# EAGLE library part 750315038 (library Wurth_Power Magnetics_WE-IBTI)
WE-IBTI Isolated Buck Transformers Characteristics Flybuck™ topology Operating Temp: -40°C to +125°C Excellent leakage inductance and interwinding capacitance performance Applications Industrial Programmable Logic Controllers (PLCs) Building automation and process control Isolated interface power: RS-422, RS-485, CAN, I2C, LAN Motor drive control, inverters and industrial automation Isolated low power drivers & regulators, smart e-meters Bias power supplies for gate drives and op-amps <https://www.we-online.com/components/media/o790826v209%20family-MID-IBTI.1673.jpg> Details see: www.we-online.com/en/components/products/WE-IBTI <www.we-online.com/catalog/WE-IBTI/?utm_source=eagle_model&utm_medium=description_link&utm_campaign=eisos_eagle> Created by Ella Wu 2024-06-07 2024 (C) Wurth Elektronik
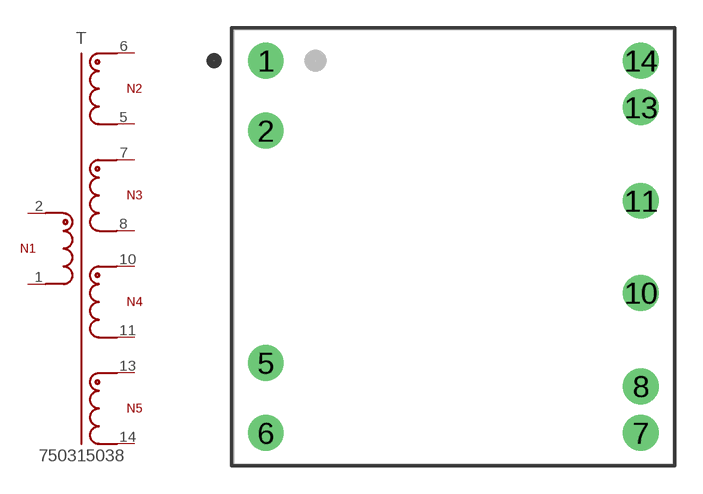
[diagram p26: symbol with the pads of WE-IBTI_PQ2020_L23.36W23.88H24.14; footprint WE-IBTI_PQ2020_L23.36W23.88H24.14]

Designator prefix T

## 750315038 (DATASHEET-URL: https://www.we-online.com/redexpert/spec/750315038?ae; FSWITCH: 250 - 600kHz; HEIGHT: 24.14mm; IOUT1: 300mA; IOUT2: 100mA; IOUT3: 100mA; IOUT4: 100mA; L: 36.5uH; LENGTH: 23.36mm; LS: 300nH; MOUNT: THT; N: 1:2.33:2.33:2.33:2.33; PART-NUMBER: 750315038; SIZE: PQ2020; VALUE: 750315038; VBUCK: 10.5V; VIN: 7 - 26 V (DC); VOUT1: 23V; VOUT2: 23V; VOUT3: 23V; VOUT4: 23V; VT: 3600V(AC); WIDTH: 23.88mm)  [WE-IBTI_PQ2020_L23.36W23.88H24.14]
1  1  pas
2  2  pas
5  5  pas
6  6  pas
7  7  pas
8  8  pas
10  10  pas
11  11  pas
13  13  pas
14  14  pas

## Footprint WE-IBTI_PQ2020_L23.36W23.88H24.14 (pad centres in mm)
WE-IBTI Isolated Buck Transformers Size: PQ2020,THT,10pins LXWXH=23.36X23.88X24.14mm
drill 1.3: 1 -10.19,10.12; 2 -10.19,6.31; 5 -10.19,-6.31; 6 -10.19,-10.12; 7 10.19,-10.12; 8 10.19,-7.58; 10 10.19,-2.5; 11 10.19,2.5; 13 10.19,7.58; 14 10.19,10.12